# EAGLE library part VS1053B (library ic-vlsi)
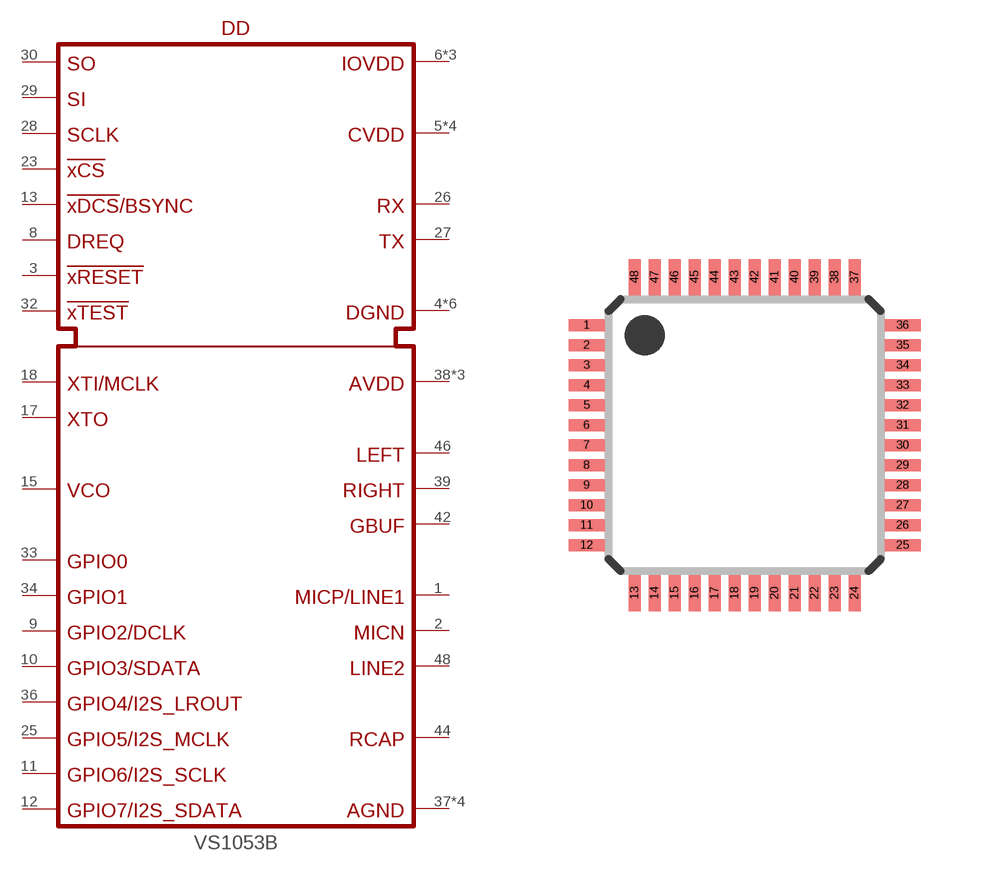
[diagram p0: symbol with the pads of LQFP48-7X7; footprint LQFP48-7X7]

Designator prefix DD

## VS1053B  [LQFP48-7X7]
1  MICP/LINE1  in
2  MICN  in
3  !XRESET  in
4  DGND  in
5  CVDD  in
6  IOVDD  in
7  CVDD  in
8  DREQ  in
9  GPIO2/DCLK  in
10  GPIO3/SDATA  in
11  GPIO6/I2S_SCLK  in
12  GPIO7/I2S_SDATA  in
13  !XDCS/BSYNC  in
14  IOVDD  in
15  VCO  in
16  DGND  in
17  XTO  in
18  XTI/MCLK  in
19  IOVDD  in
20  DGND  in
21  DGND  in
22  DGND  in
23  !XCS  in
24  CVDD  in
25  GPIO5/I2S_MCLK  in
26  RX  in
27  TX  in
28  SCLK  in
29  SI  in
30  SO  in
31  CVDD  in
32  !XTEST  in
33  GPIO0  in
34  GPIO1  in
35  DGND  in
36  GPIO4/I2S_LROUT  in
37  AGND  in
38  AVDD  in
39  RIGHT  in
40  AGND  in
41  AGND  in
42  GBUF  in
43  AVDD  in
44  RCAP  in
45  AVDD  in
46  LEFT  in
47  AGND  in
48  LINE2  in

## Footprint LQFP48-7X7 (pad centres in mm)
48-pin low profile quad flat package (7 x 7) Source: Data sheet <http://www.st.com/stonline/products/literature/ds/14771/stm8s105c4.pdf>
smd 0.9 x 0.3: 1 -3.95,2.75; 2 -3.95,2.25; 3 -3.95,1.75; 4 -3.95,1.25; 5 -3.95,0.75; 6 -3.95,0.25; 7 -3.95,-0.25; 8 -3.95,-0.75; 9 -3.95,-1.25; 10 -3.95,-1.75; 11 -3.95,-2.25; 12 -3.95,-2.75; 25 3.95,-2.75; 26 3.95,-2.25; 27 3.95,-1.75; 28 3.95,-1.25; 29 3.95,-0.75; 30 3.95,-0.25; 31 3.95,0.25; 32 3.95,0.75; 33 3.95,1.25; 34 3.95,1.75; 35 3.95,2.25; 36 3.95,2.75
smd 0.3 x 0.9: 13 -2.75,-3.95; 14 -2.25,-3.95; 15 -1.75,-3.95; 16 -1.25,-3.95; 17 -0.75,-3.95; 18 -0.25,-3.95; 19 0.25,-3.95; 20 0.75,-3.95; 21 1.25,-3.95; 22 1.75,-3.95; 23 2.25,-3.95; 24 2.75,-3.95; 37 2.75,3.95; 38 2.25,3.95; 39 1.75,3.95; 40 1.25,3.95; 41 0.75,3.95; 42 0.25,3.95; 43 -0.25,3.95; 44 -0.75,3.95; 45 -1.25,3.95; 46 -1.75,3.95; 47 -2.25,3.95; 48 -2.75,3.95